# Altium footprint library Ferrofluid_Display.PcbLib: 6 footprints
Each footprint in its own frame and in the unit in brackets; x right, y up, seen from the top. Pads: shape width x height; smd on the part's side, far side on the other; paste and mask are expansions set on the pad; w line width, h text height; cw(c..) or ccw(c..) is an arc to the next point about the centre after c.
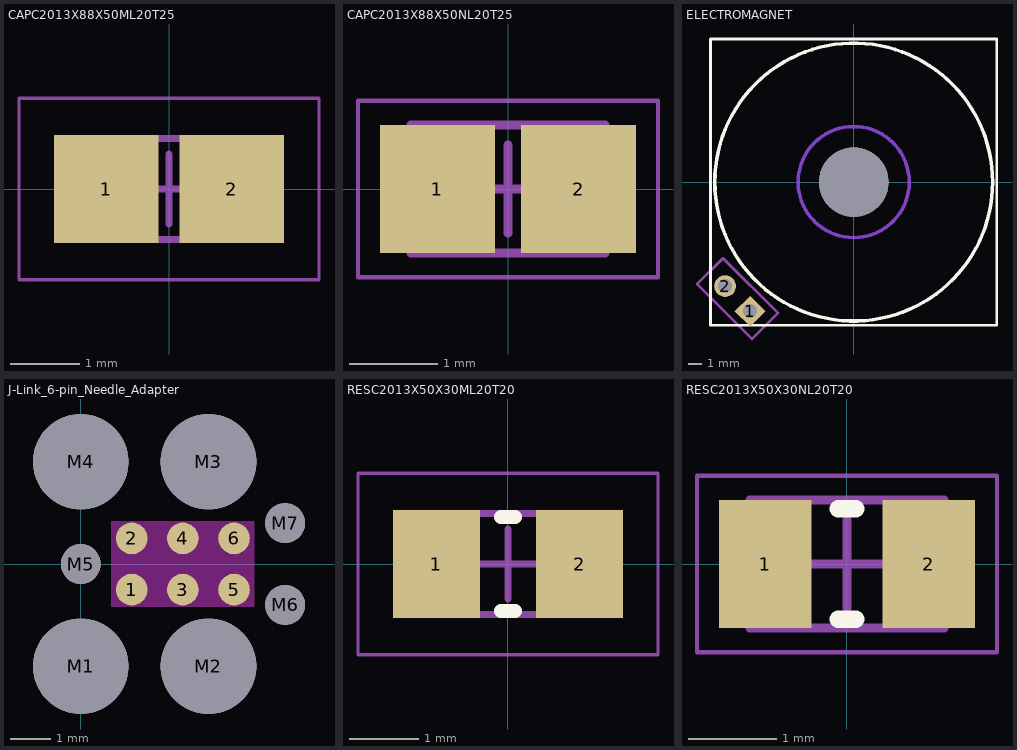
[diagram p0: the footprints below, top view; thin cyan lines are the x and y axes]

## CAPC2013X88X50ML20T25 [mm] "Chip Capacitor, 2-Leads, Body 2.00x1.25mm, IPC Low Density"
height 0.88
pads (2):
  rect 1.5x1.55 smd: 1(-0.9,0) 2(0.9,0)
Mechanical 13:
  lines w0.1: -1.1,-0.725 -1.1,0.725 1.1,0.725 1.1,-0.725 -1.1,-0.725
Mechanical 15:
  lines w0.05: -2.15,-1.3 -2.15,1.3 2.15,1.3 2.15,-1.3 -2.15,-1.3
  lines w0.1: -0.5,0 0.5,0 ; 0,-0.5 0,0.5
3D body: height 0.88, standoff 0, extent -0.6,-0.725 0.6,0.725
3D body: height 0.88, standoff 0, extent -1.1,-0.725 -0.6,0.725
3D body: height 0.88, standoff 0, extent 0.6,-0.725 1.1,0.725

## CAPC2013X88X50NL20T25 [mm] "Chip Capacitor, 2-Leads, Body 2.00x1.25mm, IPC Medium Density"
height 0.88
pads (2):
  rect 1.3x1.45 smd: 1(-0.8,0) 2(0.8,0)
Mechanical 13:
  lines w0.1: -1.1,-0.725 -1.1,0.725 1.1,0.725 1.1,-0.725 -1.1,-0.725
Mechanical 15:
  lines w0.05: -1.7,-1 -1.7,1 1.7,1 1.7,-1 -1.7,-1
  lines w0.1: -0.5,0 0.5,0 ; 0,-0.5 0,0.5
3D body: height 0.88, standoff 0, extent -0.6,-0.725 0.6,0.725
3D body: height 0.88, standoff 0, extent -1.1,-0.725 -0.6,0.725
3D body: height 0.88, standoff 0, extent 0.6,-0.725 1.1,0.725

## ELECTROMAGNET [mm]
pads (3):
  rect 1.57x1.57 hole 1.02 rot 135 paste-1000 mask+0: 1(-7.463,-9.284)
  round 1.57 hole 1.02 paste-1000 mask+0: 2(-9.259,-7.488)
  round 5 hole 5: ""(0,0)
Bottom Layer keep-out:
  circle w0.254: c0,0 r4
Top Overlay:
  circle w0.254: c0,0 r10
  lines w0.2: -10.3,-10.3 -10.3,10.3 10.3,10.3 10.3,-10.3 -10.3,-10.3
Top Assembly:
  lines w0.2: -11.267,-7.347 -9.4,-5.48 -5.454,-9.426 -7.321,-11.292 -11.267,-7.347
3D body "-electromagnet-customsize.SLDPRT": height 25, standoff 0, extent -11.138,-14.938 15.025,11.225
3D body "Conn_Harwin_M20-9990246_eec.STEP": height 8.99, standoff -2.94, extent -11.055,-11.08 -5.666,-5.691

## J-Link_6-pin_Needle_Adapter [mil]
pads (13):
  round 31 smd: 1(50,-25) 2(50,25) 3(100,-25) 4(100,25) 5(150,-25) 6(150,25)
  round 93.5 hole 93.5 unplated: M1(0,-100) M2(125,-100) M3(125,100) M4(0,100)
  round 39 hole 39 unplated: M5(0,0) M6(200,-40) M7(200,40)
Top Layer keep-out:
  region: 50,-8 150,-8 150,8 50,8
  region: 30,42 30,-42 170,-42 170,42

## RESC2013X50X30ML20T20 [mm] "Chip Resistor, 2-Leads, Body 2.00x1.25mm, IPC Low Density"
height 0.5
pads (2):
  rect 1.25x1.55 smd: 1(-1.025,0) 2(1.025,0)
Top Overlay:
  lines w0.2: -0.1,-0.675 0.1,-0.675 ; -0.1,0.675 0.1,0.675
Mechanical 13:
  lines w0.1: -1.1,-0.725 -1.1,0.725 1.1,0.725 1.1,-0.725 -1.1,-0.725
Mechanical 15:
  lines w0.05: -2.15,-1.3 -2.15,1.3 2.15,1.3 2.15,-1.3 -2.15,-1.3
  lines w0.1: -0.5,0 0.5,0 ; 0,-0.5 0,0.5
3D body: height 0.5, standoff 0, extent -0.8,-0.725 0.8,0.725
3D body: height 0.5, standoff 0, extent -1.1,-0.725 -0.8,0.725
3D body: height 0.5, standoff 0, extent 0.8,-0.725 1.1,0.725

## RESC2013X50X30NL20T20 [mm] "Chip Resistor, 2-Leads, Body 2.00x1.25mm, IPC Medium Density"
height 0.5
pads (2):
  rect 1.05x1.45 smd: 1(-0.925,0) 2(0.925,0)
Top Overlay:
  lines w0.2: -0.1,-0.625 0.1,-0.625 ; -0.1,0.625 0.1,0.625
Mechanical 13:
  lines w0.1: -1.1,-0.725 1.1,-0.725 1.1,0.725 -1.1,0.725 -1.1,-0.725
Mechanical 15:
  lines w0.05: -1.7,-1 1.7,-1 1.7,1 -1.7,1 -1.7,-1
  lines w0.1: -0.5,0 0.5,0 ; 0,-0.5 0,0.5
3D body: height 0.5, standoff 0, extent 0.8,-0.725 1.1,0.725
3D body: height 0.5, standoff 0, extent -1.1,-0.725 -0.8,0.725
3D body: height 0.5, standoff 0, extent -0.8,-0.725 0.8,0.725